# EAGLE library part TMC2209 (library ali_modules)
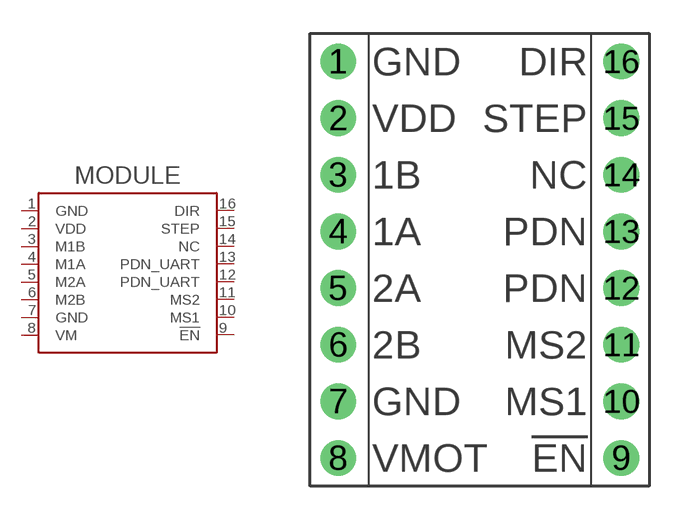
[diagram p14: symbol with the pads of TMC2209; footprint TMC2209]

Designator prefix MODULE

## TMC2209  [TMC2209]
1  GND  pwr
2  VDD  pwr
3  M1B  out
4  M1A  out
5  M2A  out
6  M2B  out
7  GND  pwr
8  VM  pwr
9  !EN  pas
10  MS1  pas
11  MS2  pas
12  PDN_UART  pas
13  PDN_UART  pas
14  NC  pas
15  STEP  in
16  DIR  in

## Footprint TMC2209 (pad centres in mm)
A4988 Stepper Motor Driver Carriers
drill 1 pad 1.6: 1 -6.35,8.89; 2 -6.35,6.35; 3 -6.35,3.81; 4 -6.35,1.27; 5 -6.35,-1.27; 6 -6.35,-3.81; 7 -6.35,-6.35; 8 -6.35,-8.89; 9 6.35,-8.89; 10 6.35,-6.35; 11 6.35,-3.81; 12 6.35,-1.27; 13 6.35,1.27; 14 6.35,3.81; 15 6.35,6.35; 16 6.35,8.89